# EAGLE library part AT91SAM7SE (library IC_Embedded)
SAM7SE series ARM-based Flash MCU Datasheet <https://ww1.microchip.com/downloads/en/DeviceDoc/6222s.pdf>
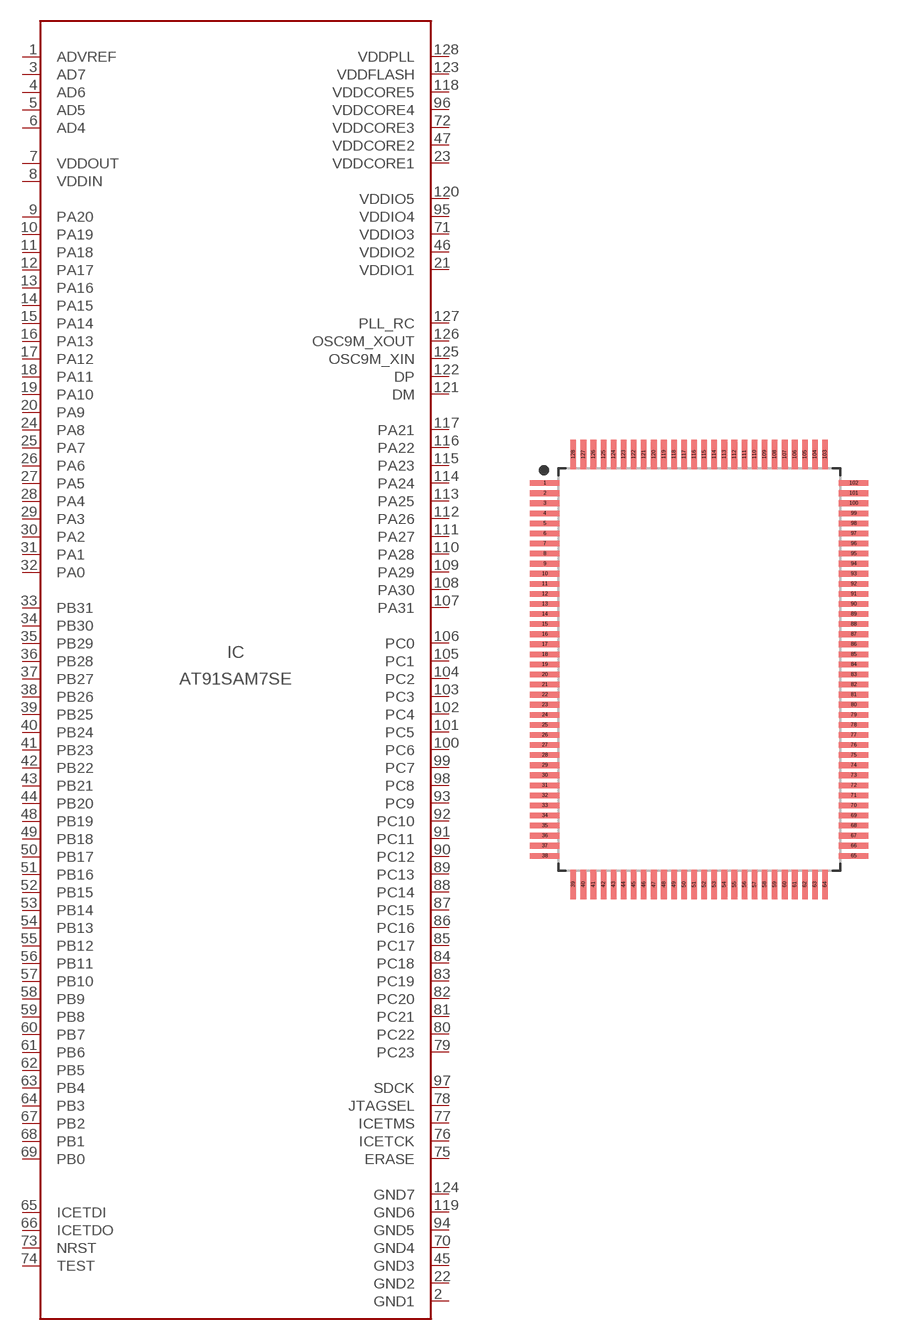
[diagram p17: symbol with the pads of QFP50P2200X1600X160-128N; footprint QFP50P2200X1600X160-128N]

Designator prefix IC

## AT91SAM7SE256-AU (CATEGORY: IC_Embedded; DESCRIPTION: IC MCU 32BIT 256KB FLASH 128LQFP; MANUFACTURER: Microchip Technology; MPN: AT91SAM7SE256-AU; OPERATING_TEMP: -40°C to 85°C; ROHS_COMPLIANT: Yes; SERIES: SAM7SE; SPEED: 55MHz; SUB-CATEGORY: Microcontroller; VALUE: AT91SAM7SE), AT91SAM7SE256B-AU (CATEGORY: IC_Embedded; DESCRIPTION: IC MCU 32BIT 256KB FLASH 128LQFP; MANUFACTURER: Microchip Technology; MPN: AT91SAM7SE256B-AU; OPERATING_TEMP: -40°C to 85°C; ROHS_COMPLIANT: Yes; SERIES: SAM7SE; SPEED: 55MHz; SUB-CATEGORY: Microcontroller; VALUE: AT91SAM7SE), AT91SAM7SE32-AU (CATEGORY: IC_Embedded; DESCRIPTION: IC MCU 32BIT 32KB FLASH 128LQFP; MANUFACTURER: Microchip Technology; MPN: AT91SAM7SE32-AU; OPERATING_TEMP: -40°C to 85°C; ROHS_COMPLIANT: Yes; SERIES: SAM7SE; SPEED: 55MHz; SUB-CATEGORY: Microcontroller; VALUE: AT91SAM7SE), AT91SAM7SE32B-AU (CATEGORY: IC_Embedded; DESCRIPTION: IC MCU 32BIT 32KB FLASH 128LQFP; MANUFACTURER: Microchip Technology; MPN: AT91SAM7SE32B-AU; OPERATING_TEMP: -40°C to 85°C; ROHS_COMPLIANT: Yes; SERIES: SAM7SE; SPEED: 55MHz; SUB-CATEGORY: Microcontroller; VALUE: AT91SAM7SE), AT91SAM7SE512-AU (CATEGORY: IC_Embedded; DESCRIPTION: IC MCU 32BIT 512KB FLASH 128LQFP; MANUFACTURER: Microchip Technology; MPN: AT91SAM7SE512-AU; OPERATING_TEMP: -40°C to 85°C; ROHS_COMPLIANT: Yes; SERIES: SAM7SE; SPEED: 55MHz; SUB-CATEGORY: Microcontroller; VALUE: AT91SAM7SE), AT91SAM7SE512B-AU (CATEGORY: IC_Embedded; DESCRIPTION: IC MCU 32BIT 512KB FLASH 128LQFP; MANUFACTURER: Microchip Technology; MPN: AT91SAM7SE512B-AU; OPERATING_TEMP: -40°C to 85°C; ROHS_COMPLIANT: Yes; SERIES: SAM7SE; SPEED: 55MHz; SUB-CATEGORY: Microcontroller; VALUE: AT91SAM7SE)  [QFP50P2200X1600X160-128N]
1  ADVREF  pas
2  GND1  pwr
3  AD7  pas
4  AD6  pas
5  AD5  pas
6  AD4  pas
7  VDDOUT  pwr
8  VDDIN  pwr
9  PA20
10  PA19
11  PA18
12  PA17
13  PA16
14  PA15
15  PA14
16  PA13
17  PA12
18  PA11
19  PA10
20  PA9
21  VDDIO1  pwr
22  GND2  pwr
23  VDDCORE1  pwr
24  PA8
25  PA7
26  PA6
27  PA5
28  PA4
29  PA3
30  PA2
31  PA1
32  PA0
33  PB31
34  PB30
35  PB29
36  PB28
37  PB27
38  PB26
39  PB25
40  PB24
41  PB23
42  PB22
43  PB21
44  PB20
45  GND3  pwr
46  VDDIO2  pwr
47  VDDCORE2  pwr
48  PB19
49  PB18
50  PB17
51  PB16
52  PB15
53  PB14
54  PB13
55  PB12
56  PB11
57  PB10
58  PB9
59  PB8
60  PB7
61  PB6
62  PB5
63  PB4
64  PB3
65  ICETDI  in
66  ICETDO  out
67  PB2
68  PB1
69  PB0
70  GND4  pwr
71  VDDIO3  pwr
72  VDDCORE3  pwr
73  NRST  in
74  TEST  in
75  ERASE  in
76  ICETCK  in
77  ICETMS  in
78  JTAGSEL  in
79  PC23
80  PC22
81  PC21
82  PC20
83  PC19
84  PC18
85  PC17
86  PC16
87  PC15
88  PC14
89  PC13
90  PC12
91  PC11
92  PC10
93  PC9
94  GND5  pwr
95  VDDIO4  pwr
96  VDDCORE4  pwr
97  SDCK  hiz
98  PC8
99  PC7
100  PC6
101  PC5
102  PC4
103  PC3
104  PC2
105  PC1
106  PC0
107  PA31
108  PA30
109  PA29
110  PA28
111  PA27
112  PA26
113  PA25
114  PA24
115  PA23
116  PA22
117  PA21
118  VDDCORE5  pwr
119  GND6  pwr
120  VDDIO5  pwr
121  DM  pas
122  DP  pas
123  VDDFLASH  pwr
124  GND7  pwr
125  OSC9M_XIN  in
126  OSC9M_XOUT  out
127  PLL_RC  in
128  VDDPLL  pwr

## Footprint QFP50P2200X1600X160-128N (pad centres in mm)
128-QFP, 0.50 mm pitch, 22.00 mm lead span1, 16.00 mm lead span2, 20.00 X 14.00 X 1.60 mm body 128-pin QFP package with 0.50 mm pitch, 22.00 mm lead span1 X 16.00 mm lead span2 with body size 20.00 X 14.00 X 1.60 mm
smd 1.469 x 0.28: 1 -7.671,9.25; 2 -7.671,8.75; 3 -7.671,8.25; 4 -7.671,7.75; 5 -7.671,7.25; 6 -7.671,6.75; 7 -7.671,6.25; 8 -7.671,5.75; 9 -7.671,5.25; 10 -7.671,4.75; 11 -7.671,4.25; 12 -7.671,3.75; 13 -7.671,3.25; 14 -7.671,2.75; 15 -7.671,2.25; 16 -7.671,1.75; 17 -7.671,1.25; 18 -7.671,0.75; 19 -7.671,0.25; 20 -7.671,-0.25; 21 -7.671,-0.75; 22 -7.671,-1.25; 23 -7.671,-1.75; 24 -7.671,-2.25; 25 -7.671,-2.75; 26 -7.671,-3.25; 27 -7.671,-3.75; 28 -7.671,-4.25; 29 -7.671,-4.75; 30 -7.671,-5.25; 31 -7.671,-5.75; 32 -7.671,-6.25; 33 -7.671,-6.75; 34 -7.671,-7.25; 35 -7.671,-7.75; 36 -7.671,-8.25; 37 -7.671,-8.75; 38 -7.671,-9.25; 65 7.671,-9.25; 66 7.671,-8.75; 67 7.671,-8.25; 68 7.671,-7.75; 69 7.671,-7.25; 70 7.671,-6.75; 71 7.671,-6.25; 72 7.671,-5.75; 73 7.671,-5.25; 74 7.671,-4.75; 75 7.671,-4.25; 76 7.671,-3.75; 77 7.671,-3.25; 78 7.671,-2.75; 79 7.671,-2.25; 80 7.671,-1.75; 81 7.671,-1.25; 82 7.671,-0.75; 83 7.671,-0.25; 84 7.671,0.25; 85 7.671,0.75; 86 7.671,1.25; 87 7.671,1.75; 88 7.671,2.25; 89 7.671,2.75; 90 7.671,3.25; 91 7.671,3.75; 92 7.671,4.25; 93 7.671,4.75; 94 7.671,5.25; 95 7.671,5.75; 96 7.671,6.25; 97 7.671,6.75; 98 7.671,7.25; 99 7.671,7.75; 100 7.671,8.25; 101 7.671,8.75; 102 7.671,9.25
smd 0.28 x 1.469: 39 -6.25,-10.671; 40 -5.75,-10.671; 41 -5.25,-10.671; 42 -4.75,-10.671; 43 -4.25,-10.671; 44 -3.75,-10.671; 45 -3.25,-10.671; 46 -2.75,-10.671; 47 -2.25,-10.671; 48 -1.75,-10.671; 49 -1.25,-10.671; 50 -0.75,-10.671; 51 -0.25,-10.671; 52 0.25,-10.671; 53 0.75,-10.671; 54 1.25,-10.671; 55 1.75,-10.671; 56 2.25,-10.671; 57 2.75,-10.671; 58 3.25,-10.671; 59 3.75,-10.671; 60 4.25,-10.671; 61 4.75,-10.671; 62 5.25,-10.671; 63 5.75,-10.671; 64 6.25,-10.671; 103 6.25,10.671; 104 5.75,10.671; 105 5.25,10.671; 106 4.75,10.671; 107 4.25,10.671; 108 3.75,10.671; 109 3.25,10.671; 110 2.75,10.671; 111 2.25,10.671; 112 1.75,10.671; 113 1.25,10.671; 114 0.75,10.671; 115 0.25,10.671; 116 -0.25,10.671; 117 -0.75,10.671; 118 -1.25,10.671; 119 -1.75,10.671; 120 -2.25,10.671; 121 -2.75,10.671; 122 -3.25,10.671; 123 -3.75,10.671; 124 -4.25,10.671; 125 -4.75,10.671; 126 -5.25,10.671; 127 -5.75,10.671; 128 -6.25,10.671